# Altium footprint library PCB - CONNECTOR - USB - CNC TECH 1002-021-01000.PCBLIB: 1 footprints
Each footprint in its own frame and in the unit in brackets; x right, y up, seen from the top. Pads: shape width x height; smd on the part's side, far side on the other; paste and mask are expansions set on the pad; w line width, h text height; cw(c..) or ccw(c..) is an arc to the next point about the centre after c.
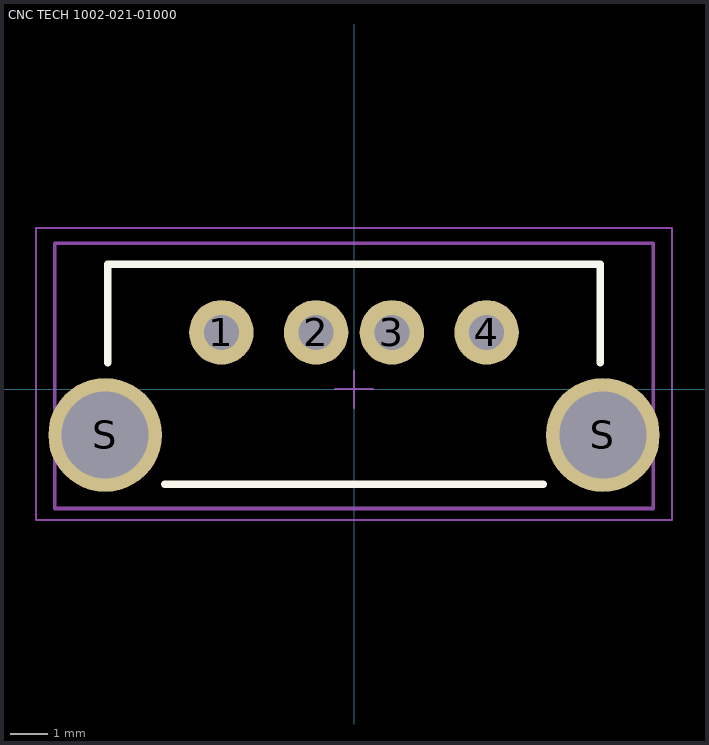
[diagram p0: the footprint, top view; thin cyan lines are the x and y axes]

## CNC TECH 1002-021-01000 [mm] "USB2.0 TYPEA 4 Pin Pitch 2-2.5mm"
height 15
pads (6):
  round 1.7 hole 0.92: 1(-3.5,1.505) 2(-1,1.505) 3(1,1.505) 4(3.5,1.505)
  round 3 hole 2.3: S(-6.57,-1.205) S(6.57,-1.205)
Top Overlay:
  lines w0.2: -6.5,0.7 -6.5,3.3 6.5,3.3 6.5,0.7 ; -5,-2.5 5,-2.5
Mechanical 13:
  lines w0.1: -7.9,-3.145 7.9,-3.145 7.9,3.855 -7.9,3.855 -7.9,-3.145
Mechanical 15:
  lines w0.05: -0.5,0.005 0.5,0.005 ; 0,-0.495 0,0.505 ; -8.4,-3.445 8.4,-3.445 8.4,4.255 -8.4,4.255 -8.4,-3.445
3D body "CNC Tech - 1002-021-01000.step": height 15, standoff -3.9, extent -7.895,-3.145 7.895,3.855